# Altium schematic symbol library Analog.SchLib: 26 symbols
Pins are listed as number, name and electrical type; pins without a type are passive.

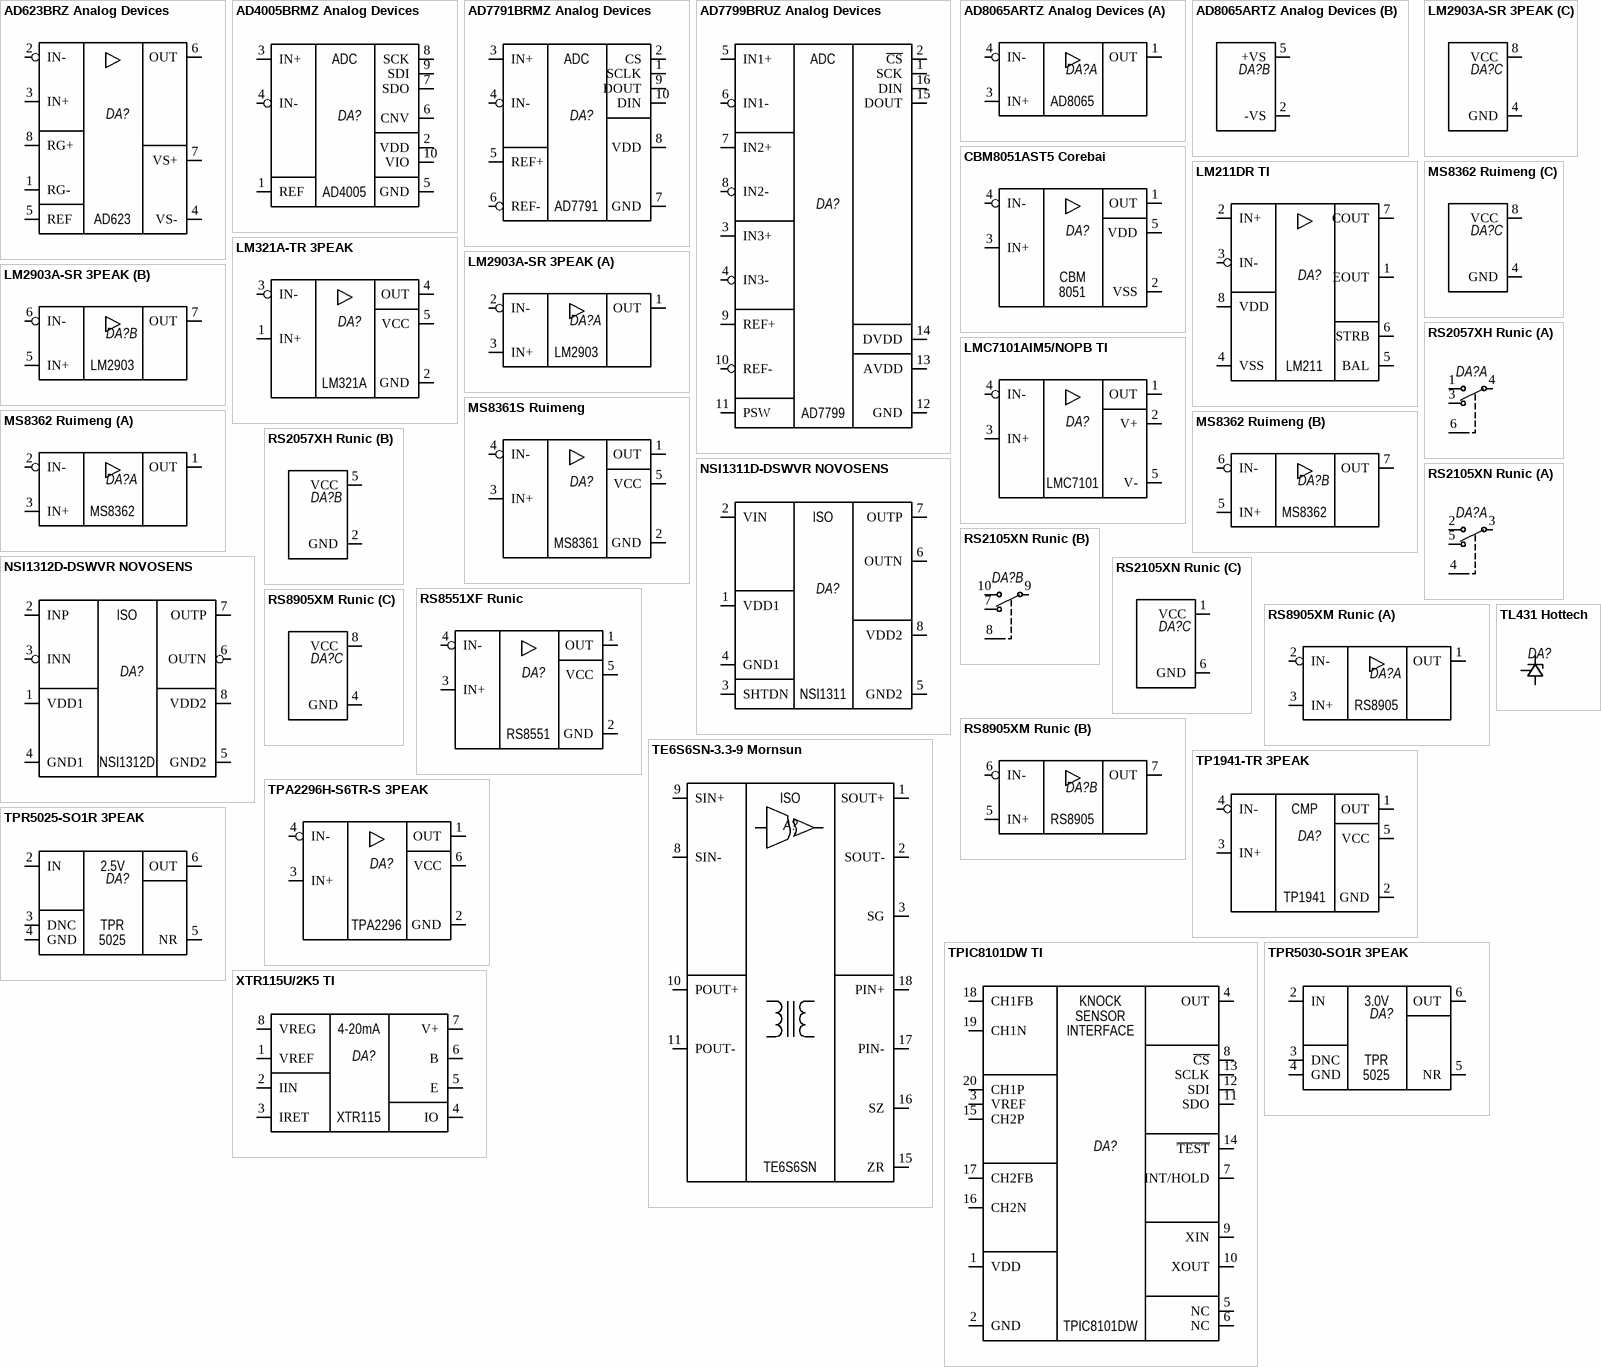
[diagram p0: symbols AD623BRZ Analog Devices to XTR115U/2K5 TI]

## AD623BRZ Analog Devices
designator DA?  (value not drawn)
footprint SOIC-8/150mil
pins: 1 RG-, 2 IN-, 3 IN+, 4 VS-, 5 REF, 6 OUT, 7 VS+, 8 RG+
text: AD623

## AD4005BRMZ Analog Devices
designator DA?  (value not drawn)
АЦП 16 бит 1MSPS Differential analog input
footprint MSOP-10
pins: 1 REF, 2 VDD, 3 IN+, 4 IN-, 5 GND, 6 CNV, 7 SDO, 8 SCK, 9 SDI, 10 VIO
1 alternate drawing of the same symbol
text: ADC; AD4005

## AD7791BRMZ Analog Devices
designator DA?  (value not drawn)
footprint MSOP-10
pins: 1 SCLK, 2 CS, 3 IN+, 4 IN-, 5 REF+, 6 REF-, 7 GND, 8 VDD, 9 DOUT, 10 DIN
text: ADC; AD7791

## AD7799BRUZ Analog Devices
designator DA?  (value not drawn)
24-Бит Sigma-Delta аналого-цифровой преобразователь с AMP, 3-канала Differential [TSSOP-16]
footprint TSSOP-16
pins: 1 SCK, 2 ~{CS}, 3 IN3+, 4 IN3-, 5 IN1+, 6 IN1-, 7 IN2+, 8 IN2-, 9 REF+, 10 REF-, 11 PSW, 12 GND, 13 AVDD, 14 DVDD, 15 DOUT, 16 DIN
text: ADC; AD7799

## AD8065ARTZ Analog Devices
designator DA?  (value not drawn)
Операционный усилитель 145 МГц
footprint SOT23-5
part A pins: 1 OUT, 3 IN+, 4 IN-
part B pins: 2 -VS, 5 +VS
1 alternate drawing of the same symbol
part A text: AD8065

## CBM8051AST5 Corebai
designator DA?  (value not drawn)
Операционный усилитель, Vs=2.5..5V, Rail-to-Rail Output, 250MHz
footprint SOT23-5
pins: 1 OUT, 2 VSS, 3 IN+, 4 IN-, 5 VDD
1 alternate drawing of the same symbol
text: CBM; 8051

## LM211DR TI
designator DA?  (value not drawn)
footprint SOIC-8/150mil
pins: 1 EOUT, 2 IN+, 3 IN-, 4 VSS, 5 BAL, 6 STRB, 7 COUT, 8 VDD
text: LM211

## LM321A-TR 3PEAK
designator DA?  (value not drawn)
footprint SOT23-5
pins: 1 IN+, 2 GND, 3 IN-, 4 OUT, 5 VCC
1 alternate drawing of the same symbol
text: LM321A

## LM2903A-SR 3PEAK
designator DA?  (value not drawn)
single or dual supply voltage comparator
footprint SOIC-8/150mil
part A pins: 1 OUT, 2 IN-, 3 IN+
part B pins: 5 IN+, 6 IN-, 7 OUT
part C pins: 4 GND, 8 VCC
part A text: LM2903
part B text: LM2903

## LMC7101AIM5/NOPB TI
designator DA?  (value not drawn)
footprint SOT23-5
pins: 1 OUT, 2 V+, 3 IN+, 4 IN-, 5 V-
text: LMC7101

## MS8361S Ruimeng
designator DA?  (value not drawn)
footprint SOT23-5
pins: 1 OUT, 2 GND, 3 IN+, 4 IN-, 5 VCC
text: MS8361

## MS8362 Ruimeng
designator DA?  (value not drawn)
footprint SOIC-8/150mil
part A pins: 1 OUT, 2 IN-, 3 IN+
part B pins: 5 IN+, 6 IN-, 7 OUT
part C pins: 4 GND, 8 VCC
part A text: MS8362
part B text: MS8362

## NSI1311D-DSWVR NOVOSENS
designator DA?  (value not drawn)
footprint SOIC-8/300mil
pins: 1 VDD1, 2 VIN, 3 SHTDN, 4 GND1, 5 GND2, 6 OUTN, 7 OUTP, 8 VDD2
text: ISO; NSI1311

## NSI1312D-DSWVR NOVOSENS
designator DA?  (value not drawn)
footprint SOIC-8/300mil
pins: 1 VDD1, 2 INP, 3 INN, 4 GND1, 5 GND2, 6 OUTN, 7 OUTP, 8 VDD2
2 alternate drawings of the same symbol
text: ISO; NSI1312D

## RS2057XH Runic
designator DA?  (value not drawn)
footprint SOT23-6
part A pins: 1 NO, 3 NC, 4 COM, 6 IN
part B pins: 2 GND, 5 VCC

## RS2105XN Runic
designator DA?  (value not drawn)
footprint MSOP-10
part A pins: 2 NO1, 3 COM1, 4 IN1, 5 NC1
part B pins: 7 NC2, 8 IN2, 9 COM2, 10 NO2
part C pins: 1 VCC, 6 GND

## RS8551XF Runic
designator DA?  (value not drawn)
footprint SOT23-5
pins: 1 OUT, 2 GND, 3 IN+, 4 IN-, 5 VCC
text: RS8551

## RS8905XM Runic
designator DA?  (value not drawn)
dual low power comparator
footprint MSOP-8
part A pins: 1 OUT, 2 IN-, 3 IN+
part B pins: 5 IN+, 6 IN-, 7 OUT
part C pins: 4 GND, 8 VCC
part A text: RS8905
part B text: RS8905

## TE6S6SN-3.3-9 Mornsun
designator A?  (value not drawn)
footprint TExxxxN
pins: 1 SOUT+, 2 SOUT-, 3 SG, 8 SIN-, 9 SIN+, 10 POUT+, 11 POUT-, 15 ZR, 16 SZ, 17 PIN-, 18 PIN+
text: ISO; TE6S6SN

## TL431 Hottech
designator DA?  (value not drawn)
footprint SOT23-3
pins: 1 REF, 2 K, 3 A

## TP1941-TR 3PEAK
designator DA?  (value not drawn)
footprint SOT23-5
pins: 1 OUT, 2 GND, 3 IN+, 4 IN-, 5 VCC
text: CMP; TP1941

## TPA2296H-S6TR-S 3PEAK
designator DA?, comment High side Current Sense Amplifier  (value not drawn)
footprint SOT23-6
pins: 1 OUT, 2 GND, 3 IN+, 4 IN-, 6 VCC
text: TPA2296

## TPIC8101DW TI
designator DA?  (value not drawn)
footprint SOIC-20/300MIL
pins: 1 VDD, 2 GND, 3 VREF, 4 OUT, 5 NC, 6 NC, 7 INT/HOLD, 8 ~{CS}, 9 XIN, 10 XOUT, 11 SDO, 12 SDI, 13 SCLK, 14 ~{TEST}, 15 CH2P, 16 CH2N, 17 CH2FB, 18 CH1FB, 19 CH1N, 20 CH1P
text: KNOCK; SENSOR; INTERFACE; TPIC8101DW

## TPR5025-SO1R 3PEAK
designator DA?  (value not drawn)
Precision Voltage Reference, 2.5V
footprint SOIC-8/150mil
pins: 2 IN, 3 DNC, 4 GND, 5 NR, 6 OUT
text: 2.5V; TPR; 5025

## TPR5030-SO1R 3PEAK
designator DA?  (value not drawn)
Precision Voltage Reference, 3.0V
footprint SOIC-8/150mil
pins: 2 IN, 3 DNC, 4 GND, 5 NR, 6 OUT
text: 3.0V; TPR; 5025

## XTR115U/2K5 TI
designator DA?  (value not drawn)
footprint SOIC-8/150mil
pins: 1 VREF, 2 IIN, 3 IRET, 4 IO, 5 E, 6 B, 7 V+, 8 VREG
text: 4-20mA; XTR115